# Altium footprint library 0603Diode.PcbLib: 1 footprints
Each footprint in its own frame and in the unit in brackets; x right, y up, seen from the top. Pads: shape width x height; smd on the part's side, far side on the other; paste and mask are expansions set on the pad; w line width, h text height; cw(c..) or ccw(c..) is an arc to the next point about the centre after c.
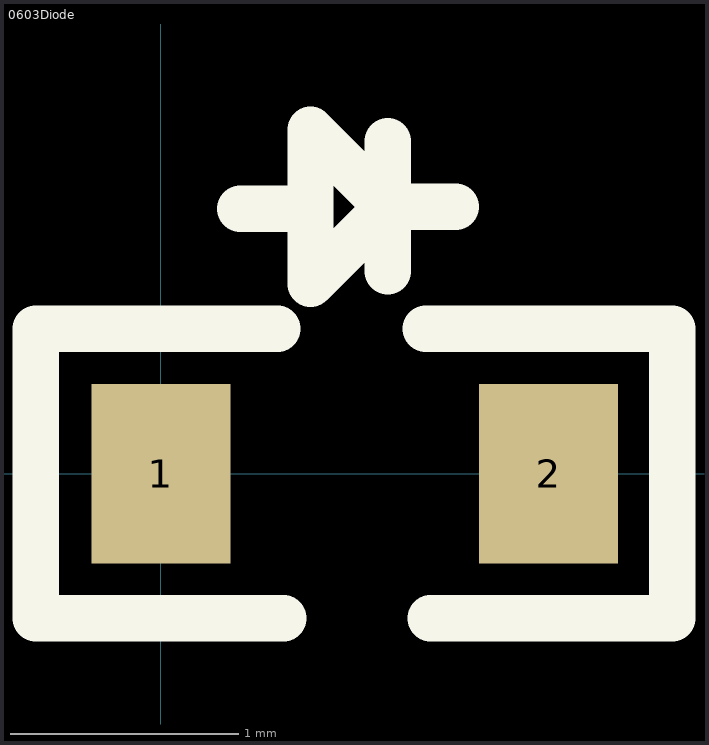
[diagram p0: the footprint, top view; thin cyan lines are the x and y axes]

## 0603Diode [mil]
height 25
pads (2):
  rect 24x31 smd: 1(0,0) 2(67,0)
TopOverlay:
  lines w8: 13.7,45.77 25.86,45.77 ; 20.15,25 -21.61,25 -21.61,-25 21.2,-25 ; 39.19,34.96 39.19,46.08 ; 39.19,57.41 39.19,46.08 ; 45.74,25 88.34,25 88.34,-25 46.59,-25 ; 50.94,46.08 39.19,46.08 ; 39.19,46.08 25.86,32.76 25.86,59.4 39.19,46.08
Mechanical4:
  text "0.0311" at 2,0 h1
3D body: height 12.49, standoff 0.6, extent 1.92,-15.73 64.91,15.76